# Altium schematic symbol library MCU_NXP_Kinetis.SchLib: 155 symbols (part 4 of 4)
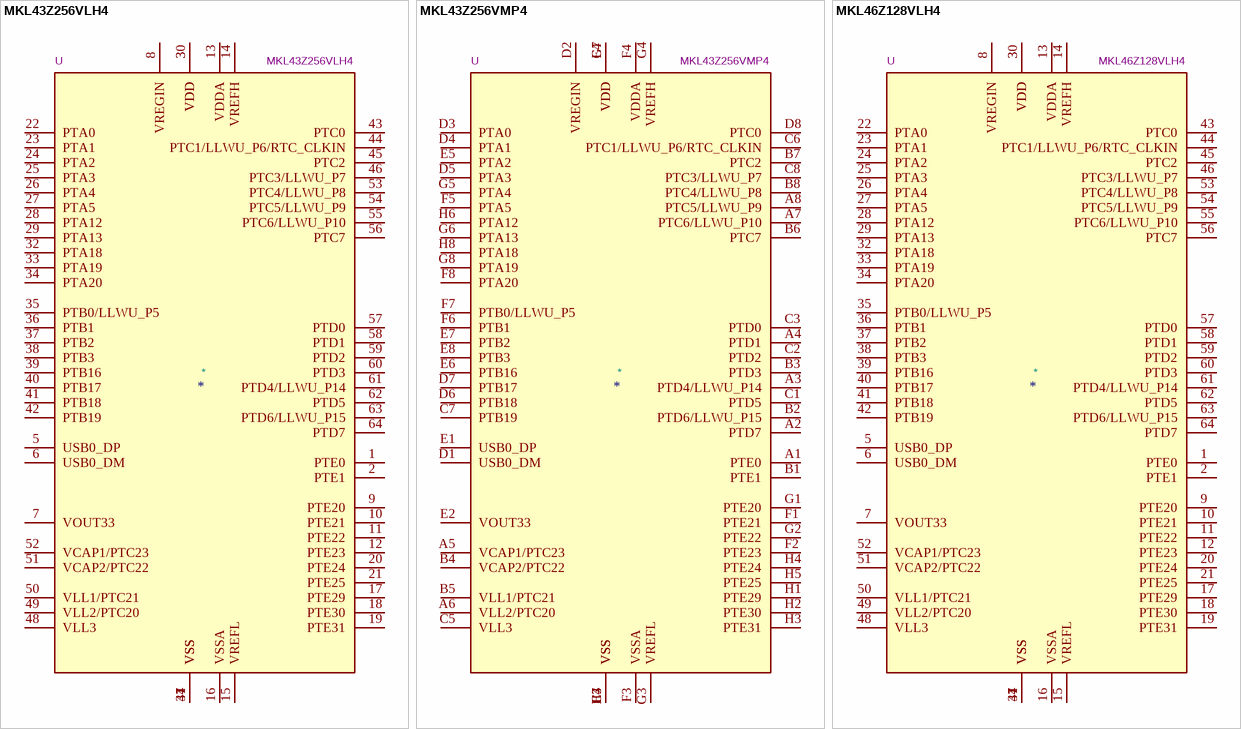
[diagram p33: symbols MKL43Z256VLH4 to MKL46Z128VLH4]

## MKL46Z128VLH4
designator *  value MKL46Z128VLH4  Reference: U
Kinetis KL46 series, 48-MHz/32-bit ARM Cortex-M0+, 128 kB flash, 16 kB SRAM, USB FS Device/OTG, Segment LCD, TSI, LQFP-64; ki_keywords: Kinetis KL46 ARM Cortex M0+; ki_fp_filters: LQFP*10x10mm*P0.5mm*; Footprint: Package_QFP:LQFP-64_10x10mm_P0.5mm; Datasheet: http://www.nxp.com/docs/en/data-sheet/KL46P121M48SF4.pdf; Description_: Kinetis KL46 series, 48-MHz/32-bit ARM Cortex-M0+, 128 kB flash, 16 kB SRAM, USB FS Device/OTG, Segment LCD, TSI, LQFP-64
pins: 1 PTE0, 2 PTE1, 3 VDD, 4 VSS, 5 USB0_DP, 6 USB0_DM, 7 VOUT33, 8 VREGIN, 9 PTE20, 10 PTE21, 11 PTE22, 12 PTE23, 13 VDDA, 14 VREFH, 15 VREFL, 16 VSSA, 17 PTE29, 18 PTE30, 19 PTE31, 20 PTE24, 21 PTE25, 22 PTA0, 23 PTA1, 24 PTA2, 25 PTA3, 26 PTA4, 27 PTA5, 28 PTA12, 29 PTA13, 30 VDD, 31 VSS, 32 PTA18, 33 PTA19, 34 PTA20, 35 PTB0/LLWU_P5, 36 PTB1, 37 PTB2, 38 PTB3, 39 PTB16, 40 PTB17, 41 PTB18, 42 PTB19, 43 PTC0, 44 PTC1/LLWU_P6/RTC_CLKIN, 45 PTC2, 46 PTC3/LLWU_P7, 47 VSS, 48 VLL3, 49 VLL2/PTC20, 50 VLL1/PTC21, 51 VCAP2/PTC22, 52 VCAP1/PTC23, 53 PTC4/LLWU_P8, 54 PTC5/LLWU_P9, 55 PTC6/LLWU_P10, 56 PTC7, 57 PTD0, 58 PTD1, 59 PTD2, 60 PTD3, 61 PTD4/LLWU_P14, 62 PTD5, 63 PTD6/LLWU_P15, 64 PTD7

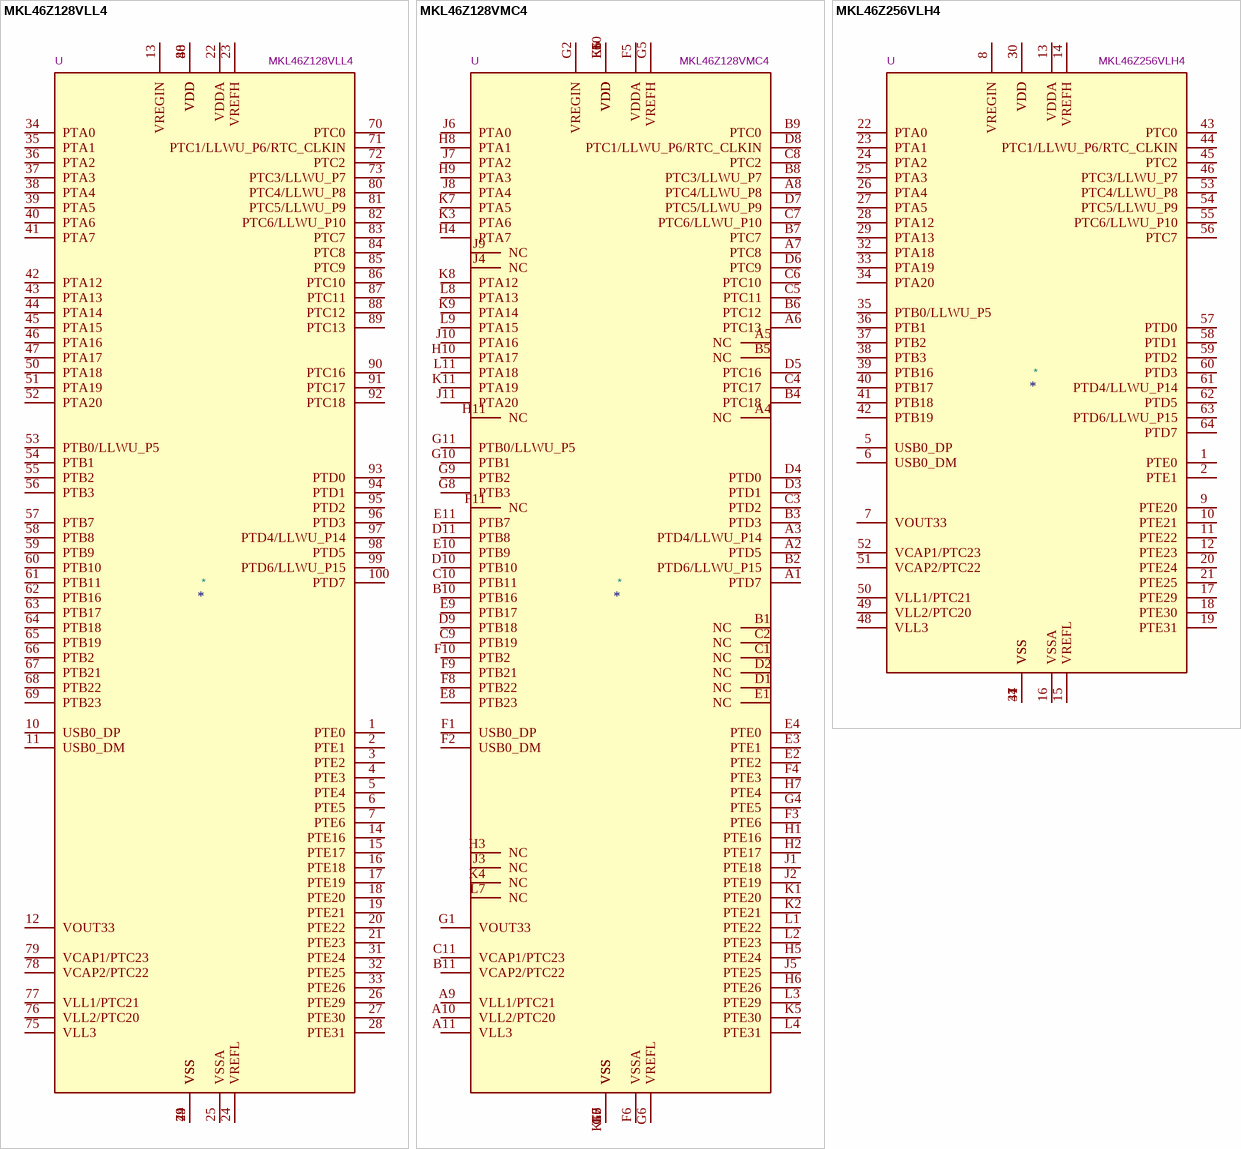
[diagram p28: symbols MKL46Z128VLL4 to MKL46Z256VLH4]

## MKL46Z128VLL4
designator *  value MKL46Z128VLL4  Reference: U
Kinetis KL46 series, 48-MHz/32-bit ARM Cortex-M0+, 128 kB flash, 16 kB SRAM, USB FS Device/OTG, Segment LCD, TSI, LQFP-100; ki_keywords: Kinetis KL46 ARM Cortex M0+; ki_fp_filters: LQFP*14x14mm*P0.5mm*; Footprint: Package_QFP:LQFP-100_14x14mm_P0.5mm; Datasheet: http://www.nxp.com/docs/en/data-sheet/KL46P121M48SF4.pdf; Description_: Kinetis KL46 series, 48-MHz/32-bit ARM Cortex-M0+, 128 kB flash, 16 kB SRAM, USB FS Device/OTG, Segment LCD, TSI, LQFP-100
pins: 1 PTE0, 2 PTE1, 3 PTE2, 4 PTE3, 5 PTE4, 6 PTE5, 7 PTE6, 8 VDD, 9 VSS, 10 USB0_DP, 11 USB0_DM, 12 VOUT33, 13 VREGIN, 14 PTE16, 15 PTE17, 16 PTE18, 17 PTE19, 18 PTE20, 19 PTE21, 20 PTE22, 21 PTE23, 22 VDDA, 23 VREFH, 24 VREFL, 25 VSSA, 26 PTE29, 27 PTE30, 28 PTE31, 29 VSS, 30 VDD, 31 PTE24, 32 PTE25, 33 PTE26, 34 PTA0, 35 PTA1, 36 PTA2, 37 PTA3, 38 PTA4, 39 PTA5, 40 PTA6, 41 PTA7, 42 PTA12, 43 PTA13, 44 PTA14, 45 PTA15, 46 PTA16, 47 PTA17, 48 VDD, 49 VSS, 50 PTA18, 51 PTA19, 52 PTA20, 53 PTB0/LLWU_P5, 54 PTB1, 55 PTB2, 56 PTB3, 57 PTB7, 58 PTB8, 59 PTB9, 60 PTB10, 61 PTB11, 62 PTB16, 63 PTB17, 64 PTB18, 65 PTB19, 66 PTB2, 67 PTB21, 68 PTB22, 69 PTB23, 70 PTC0, 71 PTC1/LLWU_P6/RTC_CLKIN, 72 PTC2, 73 PTC3/LLWU_P7, 74 VSS, 75 VLL3, 76 VLL2/PTC20, 77 VLL1/PTC21, 78 VCAP2/PTC22, 79 VCAP1/PTC23, 80 PTC4/LLWU_P8, 81 PTC5/LLWU_P9, 82 PTC6/LLWU_P10, 83 PTC7, 84 PTC8, 85 PTC9, 86 PTC10, 87 PTC11, 88 PTC12, 89 PTC13, 90 PTC16, 91 PTC17, 92 PTC18, 93 PTD0, 94 PTD1, 95 PTD2, 96 PTD3, 97 PTD4/LLWU_P14, 98 PTD5, 99 PTD6/LLWU_P15, 100 PTD7

## MKL46Z128VMC4
designator *  value MKL46Z128VMC4  Reference: U
Kinetis KL46 series, 48-MHz/32-bit ARM Cortex-M0+, 128 kB flash, 16 kB SRAM, USB FS Device/OTG, Segment LCD, TSI, MAPBGA-121; ki_keywords: Kinetis KL46 ARM Cortex M0+; ki_fp_filters: XFBGA*8x8mm*P0.65mm*; Footprint: Package_BGA:XFBGA-121_8x8mm_Layout11x11_P0.65mm; Datasheet: http://www.nxp.com/docs/en/data-sheet/KL46P121M48SF4.pdf; Description_: Kinetis KL46 series, 48-MHz/32-bit ARM Cortex-M0+, 128 kB flash, 16 kB SRAM, USB FS Device/OTG, Segment LCD, TSI, MAPBGA-121
pins: A1 PTD7, A2 PTD5, A3 PTD4/LLWU_P14, A4 NC, A5 NC, A6 PTC13, A7 PTC8, A8 PTC4/LLWU_P8, A9 VLL1/PTC21, A10 VLL2/PTC20, A11 VLL3, B1 NC, B2 PTD6/LLWU_P15, B3 PTD3, B4 PTC18, B5 NC, B6 PTC12, B7 PTC7, B8 PTC3/LLWU_P7, B9 PTC0, B10 PTB16, B11 VCAP2/PTC22, C1 NC, C2 NC, C3 PTD2, C4 PTC17, C5 PTC11, C6 PTC10, C7 PTC6/LLWU_P10, C8 PTC2, C9 PTB19, C10 PTB11, C11 VCAP1/PTC23, D1 NC, D2 NC, D3 PTD1, D4 PTD0, D5 PTC16, D6 PTC9, D7 PTC5/LLWU_P9, D8 PTC1/LLWU_P6/RTC_CLKIN, D9 PTB18, D10 PTB10, D11 PTB8, E1 NC, E2 PTE2, E3 PTE1, E4 PTE0, E5 VDD, E6 VDD, E7 VDD, E8 PTB23, E9 PTB17, E10 PTB9, E11 PTB7, F1 USB0_DP, F2 USB0_DM, F3 PTE6, F4 PTE3, F5 VDDA, F6 VSSA, F7 VSS, F8 PTB22, F9 PTB21, F10 PTB2, F11 NC, G1 VOUT33, G2 VREGIN, G3 VSS, G4 PTE5, G5 VREFH, G6 VREFL, G7 VSS, G8 PTB3, G9 PTB2, G10 PTB1, G11 PTB0/LLWU_P5, H1 PTE16, H2 PTE17, H3 NC, H4 PTA7, H5 PTE24, H6 PTE26, H7 PTE4, H8 PTA1, H9 PTA3, H10 PTA17, H11 NC, J1 PTE18, J2 PTE19, J3 NC, J4 NC, J5 PTE25, J6 PTA0, J7 PTA2, J8 PTA4, J9 NC, J10 PTA16, J11 PTA20, K1 PTE20, K2 PTE21, K3 PTA6, K4 NC, K5 PTE30, K6 VDD, K7 PTA5, K8 PTA12, K9 PTA14, K10 VSS, K11 PTA19, L1 PTE22, L2 PTE23, L3 PTE29, L4 PTE31, L5 VSS, L6 VSS, L7 NC, L8 PTA13, L9 PTA15, L10 VDD, L11 PTA18

## MKL46Z256VLH4
designator *  value MKL46Z256VLH4  Reference: U
Kinetis KL46 series, 48-MHz/32-bit ARM Cortex-M0+, 256 kB flash, 32 kB SRAM, USB FS Device/OTG, Segment LCD, TSI, LQFP-64; ki_keywords: Kinetis KL46 ARM Cortex M0+; ki_fp_filters: LQFP*10x10mm*P0.5mm*; Footprint: Package_QFP:LQFP-64_10x10mm_P0.5mm; Datasheet: http://www.nxp.com/docs/en/data-sheet/KL46P121M48SF4.pdf; Description_: Kinetis KL46 series, 48-MHz/32-bit ARM Cortex-M0+, 256 kB flash, 32 kB SRAM, USB FS Device/OTG, Segment LCD, TSI, LQFP-64
pins: 1 PTE0, 2 PTE1, 3 VDD, 4 VSS, 5 USB0_DP, 6 USB0_DM, 7 VOUT33, 8 VREGIN, 9 PTE20, 10 PTE21, 11 PTE22, 12 PTE23, 13 VDDA, 14 VREFH, 15 VREFL, 16 VSSA, 17 PTE29, 18 PTE30, 19 PTE31, 20 PTE24, 21 PTE25, 22 PTA0, 23 PTA1, 24 PTA2, 25 PTA3, 26 PTA4, 27 PTA5, 28 PTA12, 29 PTA13, 30 VDD, 31 VSS, 32 PTA18, 33 PTA19, 34 PTA20, 35 PTB0/LLWU_P5, 36 PTB1, 37 PTB2, 38 PTB3, 39 PTB16, 40 PTB17, 41 PTB18, 42 PTB19, 43 PTC0, 44 PTC1/LLWU_P6/RTC_CLKIN, 45 PTC2, 46 PTC3/LLWU_P7, 47 VSS, 48 VLL3, 49 VLL2/PTC20, 50 VLL1/PTC21, 51 VCAP2/PTC22, 52 VCAP1/PTC23, 53 PTC4/LLWU_P8, 54 PTC5/LLWU_P9, 55 PTC6/LLWU_P10, 56 PTC7, 57 PTD0, 58 PTD1, 59 PTD2, 60 PTD3, 61 PTD4/LLWU_P14, 62 PTD5, 63 PTD6/LLWU_P15, 64 PTD7

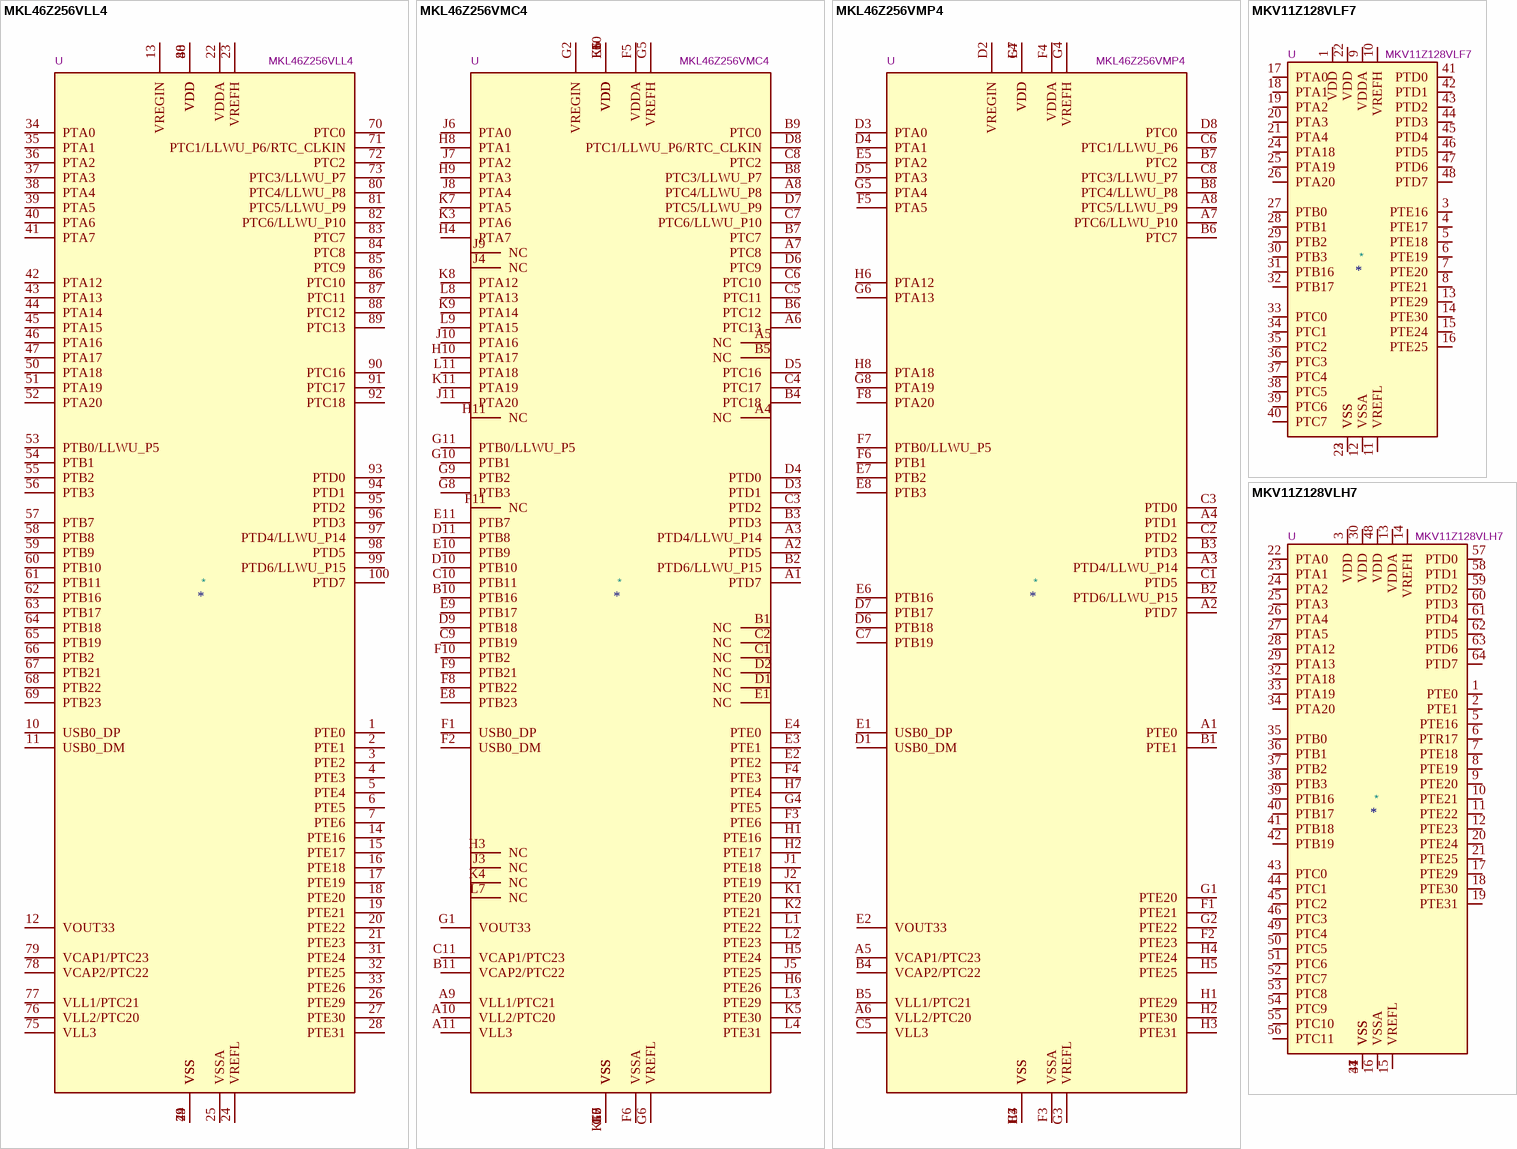
[diagram p29: symbols MKL46Z256VLL4 to MKV11Z128VLH7]

## MKL46Z256VLL4
designator *  value MKL46Z256VLL4  Reference: U
Kinetis KL46 series, 48-MHz/32-bit ARM Cortex-M0+, 256 kB flash, 32 kB SRAM, USB FS Device/OTG, Segment LCD, TSI, LQFP-100; ki_keywords: Kinetis KL46 ARM Cortex M0+; ki_fp_filters: LQFP*14x14mm*P0.5mm*; Footprint: Package_QFP:LQFP-100_14x14mm_P0.5mm; Datasheet: http://www.nxp.com/docs/en/data-sheet/KL46P121M48SF4.pdf; Description_: Kinetis KL46 series, 48-MHz/32-bit ARM Cortex-M0+, 256 kB flash, 32 kB SRAM, USB FS Device/OTG, Segment LCD, TSI, LQFP-100
pins: 1 PTE0, 2 PTE1, 3 PTE2, 4 PTE3, 5 PTE4, 6 PTE5, 7 PTE6, 8 VDD, 9 VSS, 10 USB0_DP, 11 USB0_DM, 12 VOUT33, 13 VREGIN, 14 PTE16, 15 PTE17, 16 PTE18, 17 PTE19, 18 PTE20, 19 PTE21, 20 PTE22, 21 PTE23, 22 VDDA, 23 VREFH, 24 VREFL, 25 VSSA, 26 PTE29, 27 PTE30, 28 PTE31, 29 VSS, 30 VDD, 31 PTE24, 32 PTE25, 33 PTE26, 34 PTA0, 35 PTA1, 36 PTA2, 37 PTA3, 38 PTA4, 39 PTA5, 40 PTA6, 41 PTA7, 42 PTA12, 43 PTA13, 44 PTA14, 45 PTA15, 46 PTA16, 47 PTA17, 48 VDD, 49 VSS, 50 PTA18, 51 PTA19, 52 PTA20, 53 PTB0/LLWU_P5, 54 PTB1, 55 PTB2, 56 PTB3, 57 PTB7, 58 PTB8, 59 PTB9, 60 PTB10, 61 PTB11, 62 PTB16, 63 PTB17, 64 PTB18, 65 PTB19, 66 PTB2, 67 PTB21, 68 PTB22, 69 PTB23, 70 PTC0, 71 PTC1/LLWU_P6/RTC_CLKIN, 72 PTC2, 73 PTC3/LLWU_P7, 74 VSS, 75 VLL3, 76 VLL2/PTC20, 77 VLL1/PTC21, 78 VCAP2/PTC22, 79 VCAP1/PTC23, 80 PTC4/LLWU_P8, 81 PTC5/LLWU_P9, 82 PTC6/LLWU_P10, 83 PTC7, 84 PTC8, 85 PTC9, 86 PTC10, 87 PTC11, 88 PTC12, 89 PTC13, 90 PTC16, 91 PTC17, 92 PTC18, 93 PTD0, 94 PTD1, 95 PTD2, 96 PTD3, 97 PTD4/LLWU_P14, 98 PTD5, 99 PTD6/LLWU_P15, 100 PTD7

## MKL46Z256VMC4
designator *  value MKL46Z256VMC4  Reference: U
Kinetis KL46 series, 48-MHz/32-bit ARM Cortex-M0+, 256 kB flash, 32 kB SRAM, USB FS Device/OTG, Segment LCD, TSI, MAPBGA-121; ki_keywords: Kinetis KL46 ARM Cortex M0+; ki_fp_filters: XFBGA*8x8mm*P0.65mm*; Footprint: Package_BGA:XFBGA-121_8x8mm_Layout11x11_P0.65mm; Datasheet: http://www.nxp.com/docs/en/data-sheet/KL46P121M48SF4.pdf; Description_: Kinetis KL46 series, 48-MHz/32-bit ARM Cortex-M0+, 256 kB flash, 32 kB SRAM, USB FS Device/OTG, Segment LCD, TSI, MAPBGA-121
pins: A1 PTD7, A2 PTD5, A3 PTD4/LLWU_P14, A4 NC, A5 NC, A6 PTC13, A7 PTC8, A8 PTC4/LLWU_P8, A9 VLL1/PTC21, A10 VLL2/PTC20, A11 VLL3, B1 NC, B2 PTD6/LLWU_P15, B3 PTD3, B4 PTC18, B5 NC, B6 PTC12, B7 PTC7, B8 PTC3/LLWU_P7, B9 PTC0, B10 PTB16, B11 VCAP2/PTC22, C1 NC, C2 NC, C3 PTD2, C4 PTC17, C5 PTC11, C6 PTC10, C7 PTC6/LLWU_P10, C8 PTC2, C9 PTB19, C10 PTB11, C11 VCAP1/PTC23, D1 NC, D2 NC, D3 PTD1, D4 PTD0, D5 PTC16, D6 PTC9, D7 PTC5/LLWU_P9, D8 PTC1/LLWU_P6/RTC_CLKIN, D9 PTB18, D10 PTB10, D11 PTB8, E1 NC, E2 PTE2, E3 PTE1, E4 PTE0, E5 VDD, E6 VDD, E7 VDD, E8 PTB23, E9 PTB17, E10 PTB9, E11 PTB7, F1 USB0_DP, F2 USB0_DM, F3 PTE6, F4 PTE3, F5 VDDA, F6 VSSA, F7 VSS, F8 PTB22, F9 PTB21, F10 PTB2, F11 NC, G1 VOUT33, G2 VREGIN, G3 VSS, G4 PTE5, G5 VREFH, G6 VREFL, G7 VSS, G8 PTB3, G9 PTB2, G10 PTB1, G11 PTB0/LLWU_P5, H1 PTE16, H2 PTE17, H3 NC, H4 PTA7, H5 PTE24, H6 PTE26, H7 PTE4, H8 PTA1, H9 PTA3, H10 PTA17, H11 NC, J1 PTE18, J2 PTE19, J3 NC, J4 NC, J5 PTE25, J6 PTA0, J7 PTA2, J8 PTA4, J9 NC, J10 PTA16, J11 PTA20, K1 PTE20, K2 PTE21, K3 PTA6, K4 NC, K5 PTE30, K6 VDD, K7 PTA5, K8 PTA12, K9 PTA14, K10 VSS, K11 PTA19, L1 PTE22, L2 PTE23, L3 PTE29, L4 PTE31, L5 VSS, L6 VSS, L7 NC, L8 PTA13, L9 PTA15, L10 VDD, L11 PTA18

## MKL46Z256VMP4
designator *  value MKL46Z256VMP4  Reference: U
Kinetis KL46 series, 48-MHz/32-bit ARM Cortex-M0+, 256 kB flash, 32 kB SRAM, USB FS Device/OTG, Segment LCD, TSI, MAPBGA-64; ki_keywords: Kinetis KL46 ARM Cortex M0+; ki_fp_filters: XFBGA*5.0x5.0mm*P0.5mm*; Footprint: Package_BGA:XFBGA-64_5.0x5.0mm_Layout8x8_P0.5mm; Datasheet: http://www.nxp.com/docs/en/data-sheet/KL46P121M48SF4.pdf; Description_: Kinetis KL46 series, 48-MHz/32-bit ARM Cortex-M0+, 256 kB flash, 32 kB SRAM, USB FS Device/OTG, Segment LCD, TSI, MAPBGA-64
pins: A1 PTE0, A2 PTD7, A3 PTD4/LLWU_P14, A4 PTD1, A5 VCAP1/PTC23, A6 VLL2/PTC20, A7 PTC6/LLWU_P10, A8 PTC5/LLWU_P9, B1 PTE1, B2 PTD6/LLWU_P15, B3 PTD3, B4 VCAP2/PTC22, B5 VLL1/PTC21, B6 PTC7, B7 PTC2, B8 PTC4/LLWU_P8, C1 PTD5, C2 PTD2, C3 PTD0, C4 VSS, C5 VLL3, C6 PTC1/LLWU_P6, C7 PTB19, C8 PTC3/LLWU_P7, D1 USB0_DM, D2 VREGIN, D3 PTA0, D4 PTA1, D5 PTA3, D6 PTB18, D7 PTB17, D8 PTC0, E1 USB0_DP, E2 VOUT33, E3 VSS, E4 VDD, E5 PTA2, E6 PTB16, E7 PTB2, E8 PTB3, F1 PTE21, F2 PTE23, F3 VSSA, F4 VDDA, F5 PTA5, F6 PTB1, F7 PTB0/LLWU_P5, F8 PTA20, G1 PTE20, G2 PTE22, G3 VREFL, G4 VREFH, G5 PTA4, G6 PTA13, G7 VDD, G8 PTA19, H1 PTE29, H2 PTE30, H3 PTE31, H4 PTE24, H5 PTE25, H6 PTA12, H7 VSS, H8 PTA18

## MKV11Z128VLF7
designator *  value MKV11Z128VLF7  Reference: U
Kinetis KV11 series, 75-MHz/32-bit ARM Cortex-M0+, 128 kB flash, 16 kB RAM, Entry-Level, Real-time Motor Control, LQFP-48; ki_keywords: Kinetis KV11 ARM Cortex M0+; ki_fp_filters: LQFP*7x7mm*P0.5mm*; Footprint: Package_QFP:LQFP-48_7x7mm_P0.5mm; Datasheet: https://www.nxp.com/docs/en/data-sheet/KV11P64M75.pdf; Description_: Kinetis KV11 series, 75-MHz/32-bit ARM Cortex-M0+, 128 kB flash, 16 kB RAM, Entry-Level, Real-time Motor Control, LQFP-48
pins: 1 VDD, 2 VSS, 3 PTE16, 4 PTE17, 5 PTE18, 6 PTE19, 7 PTE20, 8 PTE21, 9 VDDA, 10 VREFH, 11 VREFL, 12 VSSA, 13 PTE29, 14 PTE30, 15 PTE24, 16 PTE25, 17 PTA0, 18 PTA1, 19 PTA2, 20 PTA3, 21 PTA4, 22 VDD, 23 VSS, 24 PTA18, 25 PTA19, 26 PTA20, 27 PTB0, 28 PTB1, 29 PTB2, 30 PTB3, 31 PTB16, 32 PTB17, 33 PTC0, 34 PTC1, 35 PTC2, 36 PTC3, 37 PTC4, 38 PTC5, 39 PTC6, 40 PTC7, 41 PTD0, 42 PTD1, 43 PTD2, 44 PTD3, 45 PTD4, 46 PTD5, 47 PTD6, 48 PTD7

## MKV11Z128VLH7
designator *  value MKV11Z128VLH7  Reference: U
Kinetis KV11 series, 75-MHz/32-bit ARM Cortex-M0+, 128 kB flash, 16 kB RAM, Entry-Level, Real-time Motor Control, LQFP-64; ki_keywords: Kinetis KV11 ARM Cortex M0+; ki_fp_filters: LQFP*10x10mm*P0.5mm*; Footprint: Package_QFP:LQFP-64_10x10mm_P0.5mm; Datasheet: https://www.nxp.com/docs/en/data-sheet/KV11P64M75.pdf; Description_: Kinetis KV11 series, 75-MHz/32-bit ARM Cortex-M0+, 128 kB flash, 16 kB RAM, Entry-Level, Real-time Motor Control, LQFP-64
pins: 1 PTE0, 2 PTE1, 3 VDD, 4 VSS, 5 PTE16, 6 PTR17, 7 PTE18, 8 PTE19, 9 PTE20, 10 PTE21, 11 PTE22, 12 PTE23, 13 VDDA, 14 VREFH, 15 VREFL, 16 VSSA, 17 PTE29, 18 PTE30, 19 PTE31, 20 PTE24, 21 PTE25, 22 PTA0, 23 PTA1, 24 PTA2, 25 PTA3, 26 PTA4, 27 PTA5, 28 PTA12, 29 PTA13, 30 VDD, 31 VSS, 32 PTA18, 33 PTA19, 34 PTA20, 35 PTB0, 36 PTB1, 37 PTB2, 38 PTB3, 39 PTB16, 40 PTB17, 41 PTB18, 42 PTB19, 43 PTC0, 44 PTC1, 45 PTC2, 46 PTC3, 47 VSS, 48 VDD, 49 PTC4, 50 PTC5, 51 PTC6, 52 PTC7, 53 PTC8, 54 PTC9, 55 PTC10, 56 PTC11, 57 PTD0, 58 PTD1, 59 PTD2, 60 PTD3, 61 PTD4, 62 PTD5, 63 PTD6, 64 PTD7

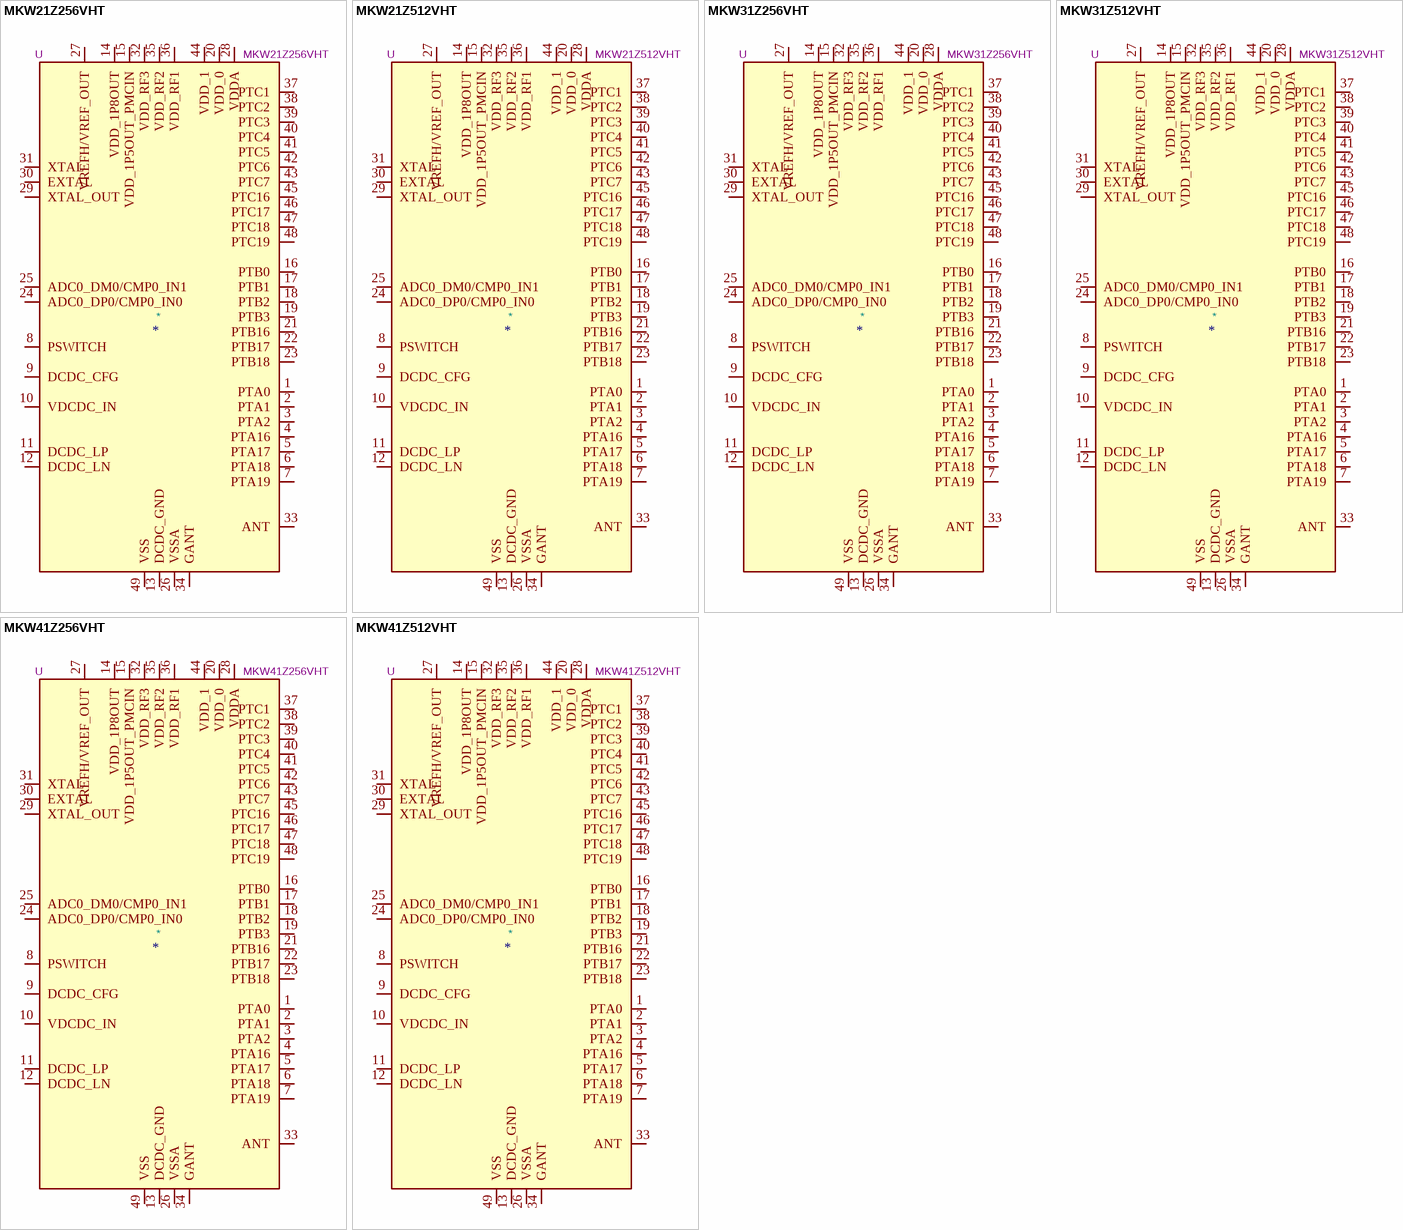
[diagram p30: symbols MKW21Z256VHT to MKW41Z512VHT]

## MKW21Z256VHT
designator *  value MKW21Z256VHT  Reference: U
Kinetis KW41Z-2.4 GHz, Arm Cortex-M0+, 256kB Flash, 64kB SRAM, generic FSK, LQFN-48; ki_keywords: Kinetis KW21Z ARM Cortex M0+; ki_fp_filters: NXP*LQFN*1EP*7x7mm*P0.5mm*; Footprint: Package_DFN_QFN:NXP_LQFN-48-1EP_7x7mm_P0.5mm_EP3.5x3.5mm_16xMask0.45x0.45_ThermalVias; Datasheet: https://www.nxp.com/docs/en/data-sheet/MKW41Z512.pdf; Description_: Kinetis KW41Z-2.4 GHz, Arm Cortex-M0+, 256kB Flash, 64kB SRAM, generic FSK, LQFN-48
pins: 1 PTA0, 2 PTA1, 3 PTA2, 4 PTA16, 5 PTA17, 6 PTA18, 7 PTA19, 8 PSWITCH, 9 DCDC_CFG, 10 VDCDC_IN, 11 DCDC_LP, 12 DCDC_LN, 13 DCDC_GND, 14 VDD_1P8OUT, 15 VDD_1P5OUT_PMCIN, 16 PTB0, 17 PTB1, 18 PTB2, 19 PTB3, 20 VDD_0, 21 PTB16, 22 PTB17, 23 PTB18, 24 ADC0_DP0/CMP0_IN0, 25 ADC0_DM0/CMP0_IN1, 26 VSSA, 27 VREFH/VREF_OUT, 28 VDDA, 29 XTAL_OUT, 30 EXTAL, 31 XTAL, 32 VDD_RF3, 33 ANT, 34 GANT, 35 VDD_RF2, 36 VDD_RF1, 37 PTC1, 38 PTC2, 39 PTC3, 40 PTC4, 41 PTC5, 42 PTC6, 43 PTC7, 44 VDD_1, 45 PTC16, 46 PTC17, 47 PTC18, 48 PTC19, 49 VSS

## MKW21Z512VHT
designator *  value MKW21Z512VHT  Reference: U
Kinetis KW41Z-2.4 GHz, Arm Cortex-M0+, 512kB Flash, 128kB SRAM, generic FSK, LQFN-48; ki_keywords: Kinetis KW21Z ARM Cortex M0+; ki_fp_filters: NXP*LQFN*1EP*7x7mm*P0.5mm*; Footprint: Package_DFN_QFN:NXP_LQFN-48-1EP_7x7mm_P0.5mm_EP3.5x3.5mm_16xMask0.45x0.45_ThermalVias; Datasheet: https://www.nxp.com/docs/en/data-sheet/MKW41Z512.pdf; Description_: Kinetis KW41Z-2.4 GHz, Arm Cortex-M0+, 512kB Flash, 128kB SRAM, generic FSK, LQFN-48
pins: 1 PTA0, 2 PTA1, 3 PTA2, 4 PTA16, 5 PTA17, 6 PTA18, 7 PTA19, 8 PSWITCH, 9 DCDC_CFG, 10 VDCDC_IN, 11 DCDC_LP, 12 DCDC_LN, 13 DCDC_GND, 14 VDD_1P8OUT, 15 VDD_1P5OUT_PMCIN, 16 PTB0, 17 PTB1, 18 PTB2, 19 PTB3, 20 VDD_0, 21 PTB16, 22 PTB17, 23 PTB18, 24 ADC0_DP0/CMP0_IN0, 25 ADC0_DM0/CMP0_IN1, 26 VSSA, 27 VREFH/VREF_OUT, 28 VDDA, 29 XTAL_OUT, 30 EXTAL, 31 XTAL, 32 VDD_RF3, 33 ANT, 34 GANT, 35 VDD_RF2, 36 VDD_RF1, 37 PTC1, 38 PTC2, 39 PTC3, 40 PTC4, 41 PTC5, 42 PTC6, 43 PTC7, 44 VDD_1, 45 PTC16, 46 PTC17, 47 PTC18, 48 PTC19, 49 VSS

## MKW31Z256VHT
designator *  value MKW31Z256VHT  Reference: U
Kinetis KW31Z-2.4 GHz, Arm Cortex-M0+, 256kB Flash, 64kB SRAM, Dual Mode: Bluetooth LE and generic FSK, LQFN-48; ki_keywords: Kinetis KW31Z ARM Cortex M0+; ki_fp_filters: NXP*LQFN*1EP*7x7mm*P0.5mm*; Footprint: Package_DFN_QFN:NXP_LQFN-48-1EP_7x7mm_P0.5mm_EP3.5x3.5mm_16xMask0.45x0.45_ThermalVias; Datasheet: https://www.nxp.com/docs/en/data-sheet/MKW41Z512.pdf; Description_: Kinetis KW31Z-2.4 GHz, Arm Cortex-M0+, 256kB Flash, 64kB SRAM, Dual Mode: Bluetooth LE and generic FSK, LQFN-48
pins: 1 PTA0, 2 PTA1, 3 PTA2, 4 PTA16, 5 PTA17, 6 PTA18, 7 PTA19, 8 PSWITCH, 9 DCDC_CFG, 10 VDCDC_IN, 11 DCDC_LP, 12 DCDC_LN, 13 DCDC_GND, 14 VDD_1P8OUT, 15 VDD_1P5OUT_PMCIN, 16 PTB0, 17 PTB1, 18 PTB2, 19 PTB3, 20 VDD_0, 21 PTB16, 22 PTB17, 23 PTB18, 24 ADC0_DP0/CMP0_IN0, 25 ADC0_DM0/CMP0_IN1, 26 VSSA, 27 VREFH/VREF_OUT, 28 VDDA, 29 XTAL_OUT, 30 EXTAL, 31 XTAL, 32 VDD_RF3, 33 ANT, 34 GANT, 35 VDD_RF2, 36 VDD_RF1, 37 PTC1, 38 PTC2, 39 PTC3, 40 PTC4, 41 PTC5, 42 PTC6, 43 PTC7, 44 VDD_1, 45 PTC16, 46 PTC17, 47 PTC18, 48 PTC19, 49 VSS

## MKW31Z512VHT
designator *  value MKW31Z512VHT  Reference: U
Kinetis KW41Z-2.4 GHz, Arm Cortex-M0+, 512kB Flash, 128kB SRAM, Dual Mode: Bluetooth LE and generic FSK, LQFN-48; ki_keywords: Kinetis KW31Z ARM Cortex M0+; ki_fp_filters: NXP*LQFN*1EP*7x7mm*P0.5mm*; Footprint: Package_DFN_QFN:NXP_LQFN-48-1EP_7x7mm_P0.5mm_EP3.5x3.5mm_16xMask0.45x0.45_ThermalVias; Datasheet: https://www.nxp.com/docs/en/data-sheet/MKW41Z512.pdf; Description_: Kinetis KW41Z-2.4 GHz, Arm Cortex-M0+, 512kB Flash, 128kB SRAM, Dual Mode: Bluetooth LE and generic FSK, LQFN-48
pins: 1 PTA0, 2 PTA1, 3 PTA2, 4 PTA16, 5 PTA17, 6 PTA18, 7 PTA19, 8 PSWITCH, 9 DCDC_CFG, 10 VDCDC_IN, 11 DCDC_LP, 12 DCDC_LN, 13 DCDC_GND, 14 VDD_1P8OUT, 15 VDD_1P5OUT_PMCIN, 16 PTB0, 17 PTB1, 18 PTB2, 19 PTB3, 20 VDD_0, 21 PTB16, 22 PTB17, 23 PTB18, 24 ADC0_DP0/CMP0_IN0, 25 ADC0_DM0/CMP0_IN1, 26 VSSA, 27 VREFH/VREF_OUT, 28 VDDA, 29 XTAL_OUT, 30 EXTAL, 31 XTAL, 32 VDD_RF3, 33 ANT, 34 GANT, 35 VDD_RF2, 36 VDD_RF1, 37 PTC1, 38 PTC2, 39 PTC3, 40 PTC4, 41 PTC5, 42 PTC6, 43 PTC7, 44 VDD_1, 45 PTC16, 46 PTC17, 47 PTC18, 48 PTC19, 49 VSS

## MKW41Z256VHT
designator *  value MKW41Z256VHT  Reference: U
Kinetis KW41Z-2.4 GHz, Arm Cortex-M0+, 256kB Flash, 64kB SRAM, Multi Mode: Bluetooth LE and 802.15.4 Wireless Radio and generic FSK, LQFN-48; ki_keywords: Kinetis KW41Z ARM Cortex M0+; ki_fp_filters: NXP*LQFN*1EP*7x7mm*P0.5mm*; Footprint: Package_DFN_QFN:NXP_LQFN-48-1EP_7x7mm_P0.5mm_EP3.5x3.5mm_16xMask0.45x0.45_ThermalVias; Datasheet: https://www.nxp.com/docs/en/data-sheet/MKW41Z512.pdf; Description_: Kinetis KW41Z-2.4 GHz, Arm Cortex-M0+, 256kB Flash, 64kB SRAM, Multi Mode: Bluetooth LE and 802.15.4 Wireless Radio and generic FSK, LQFN-48
pins: 1 PTA0, 2 PTA1, 3 PTA2, 4 PTA16, 5 PTA17, 6 PTA18, 7 PTA19, 8 PSWITCH, 9 DCDC_CFG, 10 VDCDC_IN, 11 DCDC_LP, 12 DCDC_LN, 13 DCDC_GND, 14 VDD_1P8OUT, 15 VDD_1P5OUT_PMCIN, 16 PTB0, 17 PTB1, 18 PTB2, 19 PTB3, 20 VDD_0, 21 PTB16, 22 PTB17, 23 PTB18, 24 ADC0_DP0/CMP0_IN0, 25 ADC0_DM0/CMP0_IN1, 26 VSSA, 27 VREFH/VREF_OUT, 28 VDDA, 29 XTAL_OUT, 30 EXTAL, 31 XTAL, 32 VDD_RF3, 33 ANT, 34 GANT, 35 VDD_RF2, 36 VDD_RF1, 37 PTC1, 38 PTC2, 39 PTC3, 40 PTC4, 41 PTC5, 42 PTC6, 43 PTC7, 44 VDD_1, 45 PTC16, 46 PTC17, 47 PTC18, 48 PTC19, 49 VSS

## MKW41Z512VHT
designator *  value MKW41Z512VHT  Reference: U
Kinetis KW41Z-2.4 GHz, Arm Cortex-M0+, 512kB Flash, 128kB SRAM, Multi Mode: Bluetooth LE and 802.15.4 Wireless Radio and generic FSK, LQFN-48; ki_keywords: Kinetis KW41Z ARM Cortex M0+; ki_fp_filters: NXP*LQFN*1EP*7x7mm*P0.5mm*; Footprint: Package_DFN_QFN:NXP_LQFN-48-1EP_7x7mm_P0.5mm_EP3.5x3.5mm_16xMask0.45x0.45_ThermalVias; Datasheet: https://www.nxp.com/docs/en/data-sheet/MKW41Z512.pdf; Description_: Kinetis KW41Z-2.4 GHz, Arm Cortex-M0+, 512kB Flash, 128kB SRAM, Multi Mode: Bluetooth LE and 802.15.4 Wireless Radio and generic FSK, LQFN-48
pins: 1 PTA0, 2 PTA1, 3 PTA2, 4 PTA16, 5 PTA17, 6 PTA18, 7 PTA19, 8 PSWITCH, 9 DCDC_CFG, 10 VDCDC_IN, 11 DCDC_LP, 12 DCDC_LN, 13 DCDC_GND, 14 VDD_1P8OUT, 15 VDD_1P5OUT_PMCIN, 16 PTB0, 17 PTB1, 18 PTB2, 19 PTB3, 20 VDD_0, 21 PTB16, 22 PTB17, 23 PTB18, 24 ADC0_DP0/CMP0_IN0, 25 ADC0_DM0/CMP0_IN1, 26 VSSA, 27 VREFH/VREF_OUT, 28 VDDA, 29 XTAL_OUT, 30 EXTAL, 31 XTAL, 32 VDD_RF3, 33 ANT, 34 GANT, 35 VDD_RF2, 36 VDD_RF1, 37 PTC1, 38 PTC2, 39 PTC3, 40 PTC4, 41 PTC5, 42 PTC6, 43 PTC7, 44 VDD_1, 45 PTC16, 46 PTC17, 47 PTC18, 48 PTC19, 49 VSS